# Altium integrated library ComponentsLibrary.IntLib: 3 symbols
Pins are listed as number, name and electrical type; pins without a type are passive.

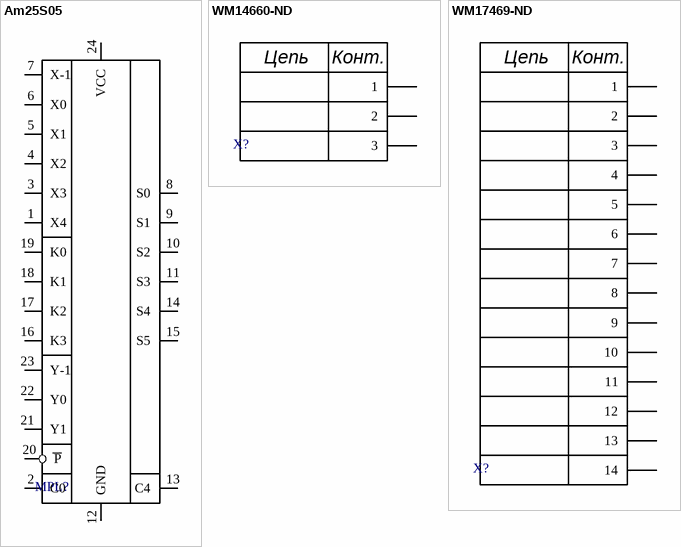
[diagram p0: symbols Am25S05 to WM17469-ND]

## Am25S05
designator MPL?, comment Complement multiplier  (value not drawn)
footprint DIP-24 (AM25S05)
pins: 1 X4, 2 C0, 3 X3, 4 X2, 5 X1, 6 X0, 7 X-1, 8 S0, 9 S1, 10 S2, 11 S3, 12 GND, 13 C4, 14 S4, 15 S5, 16 K3, 17 K2, 18 K1, 19 K0, 20 P, 21 Y1, 22 Y0, 23 Y-1 (hiz), 24 VCC

## WM14660-ND
designator X?, comment 3-pins connector  (value not drawn)
footprint 3-PINS (WM14660-ND)
pins: 1, 2, 3
text: Цепь; Конт.

## WM17469-ND
designator X?, comment 14-pins connector  (value not drawn)
footprint 14-PINS (WM17469-ND)
pins: 1, 2, 3, 4, 5, 6, 7, 8, 9, 10, 11, 12, 13, 14
text: Цепь; Конт.